# Altium footprint library nuts.PcbLib: 2 footprints
Each footprint in its own frame and in the unit in brackets; x right, y up, seen from the top. Pads: shape width x height; smd on the part's side, far side on the other; paste and mask are expansions set on the pad; w line width, h text height; cw(c..) or ccw(c..) is an arc to the next point about the centre after c.
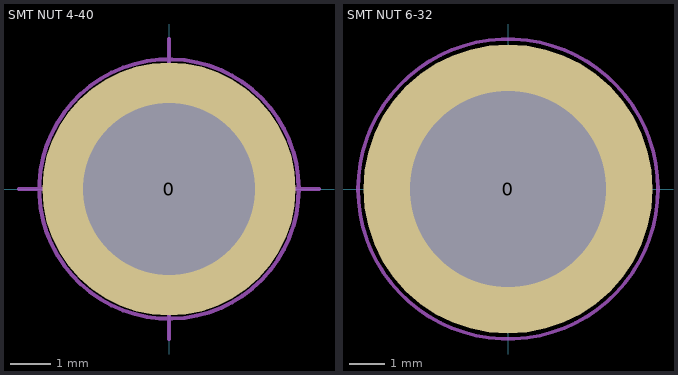
[diagram p0: the footprints below, top view; thin cyan lines are the x and y axes]

## SMT NUT 4-40 [mm] "4.25mm Hole Plated, 6.25 Pad"
height 1.57
pads (1):
  round 6.25 / inner round 5 / far side round 6.25 hole 4.25: 0(0,0)
Top Paste:
  lines w0.5: -2.778,-0.744 ccw(c-0.001,0) -0.745,-2.777 -0.615,-2.294 cw(c-0.001,0) -2.295,-0.615 -2.778,-0.744 ; -2.777,0.744 cw(c0,0) -0.744,2.777 -0.615,2.294 ccw(c0,0) -2.294,0.615 -2.777,0.744 ; 0.615,-2.295 ccw(c0,-0.001) 2.294,-0.615 2.777,-0.745 cw(c0,-0.001) 0.744,-2.778 0.615,-2.295 ; 0.615,2.294 cw(c0.001,0) 2.295,0.615 2.778,0.744 ccw(c0.001,0) 0.745,2.777 0.615,2.294
Mechanical 13:
  circle w0.1: c0,0 r2
  lines w0.1: -3.7,0 3.7,0 ; 0,-3.7 0,3.7
Mechanical 14:
  circle w0.1: c0,0 r2
  lines w0.1: -2.2,0 2.2,0 ; 0,-2.2 0,2.2
Mechanical 15:
  circle w0.1: c0,0 r3.2
Mechanical 16:
  circle w0.1: c0,0 r3.2
3D body "SMTSO-440-2ET-PennEngineering-03-09-2018.stp": height 1.59, standoff -1.51, extent -2.781,-2.782 2.781,2.782

## SMT NUT 6-32 [mm] "5.5mm Hole Plated, 8.1 Pad"
height 1.57
pads (1):
  round 8.1 / inner round 6 / far side round 8.1 hole 5.5: 0(0,0)
Top Paste:
  lines w0.7: -2.994,0.802 cw(c0,0) -0.802,2.994 -0.958,3.574 ccw(c0,0) -3.574,0.958 -2.993,0.797 ; -0.803,-2.994 cw(c-0.001,0) -2.995,-0.802 -3.575,-0.958 ccw(c-0.001,0) -0.958,-3.574 -0.797,-2.993 ; 0.797,2.993 0.958,3.574 cw(c0.001,0) 3.575,0.958 2.995,0.802 ccw(c0.001,0) 0.803,2.994 ; 2.993,-0.797 3.574,-0.958 cw(c0,-0.001) 0.958,-3.575 0.802,-2.995 ccw(c0,-0.001) 2.994,-0.803
Mechanical 13:
  circle w0.1: c0,0 r2
  lines w0.1: -3.7,0 3.7,0 ; 0,-3.7 0,3.7
Mechanical 14:
  circle w0.1: c0,0 r2
  lines w0.1: -2.2,0 2.2,0 ; 0,-2.2 0,2.2
Mechanical 15:
  circle w0.1: c0,0 r4.2
Mechanical 16:
  circle w0.1: c0,0 r4.2
3D body "SMTSO-632-2ET-PennEngineering-04-10-2017.stp": height 1.59, standoff -1.51, extent -3.569,-3.569 3.569,3.569